# Altium footprint library 2xLED.PcbLib: 1 footprints
Each footprint in its own frame and in the unit in brackets; x right, y up, seen from the top. Pads: shape width x height; smd on the part's side, far side on the other; paste and mask are expansions set on the pad; w line width, h text height; cw(c..) or ccw(c..) is an arc to the next point about the centre after c.
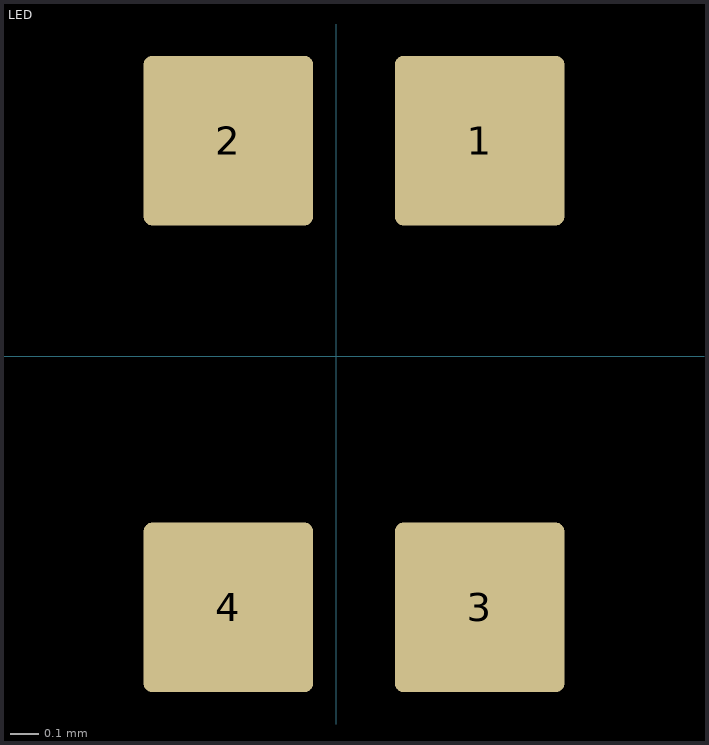
[diagram p0: the footprint, top view; thin cyan lines are the x and y axes]

## LED [mm]
pads (4):
  rrect10% 0.6x0.6 smd: 1(0.508,0.762) 2(-0.381,0.762) 3(0.508,-0.889) 4(-0.381,-0.889)